# EAGLE library part TX-AUXOUT_1-(4) (library _mtvl.transformers)
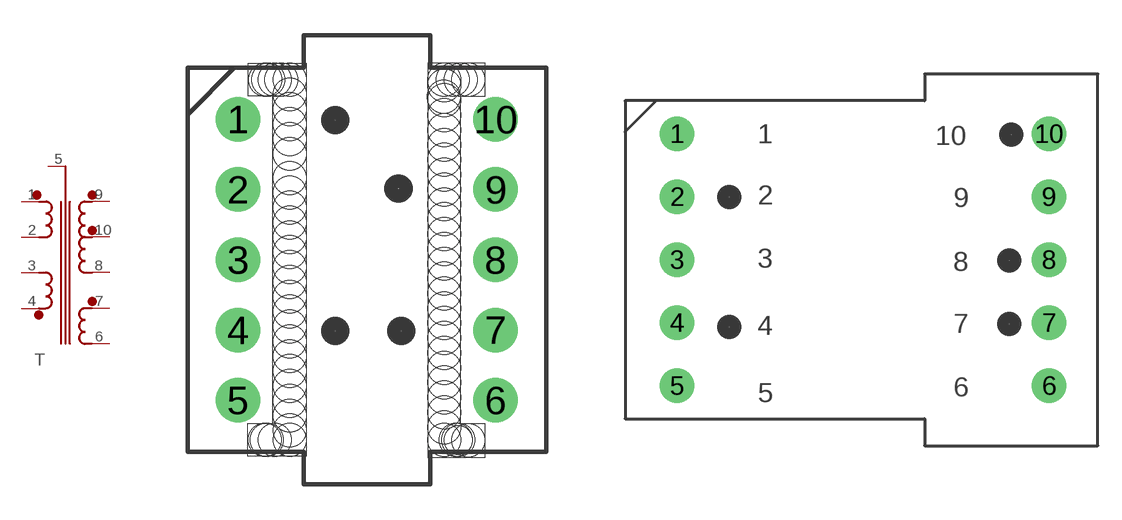
[diagram p3: symbol with the pads of EE19V-(5+5)P-(1); footprints EE19V-(5+5)P-(1), EF20HL-(5+5)P-(2)]

Designator prefix T

## TX-AUXOUT_1-(4)-EE19V-(5+5)P-(1)  [EE19V-(5+5)P-(1)]
1  2  pas
2  3  pas
3  4  pas
4  5  pas
5  1  pas
6  10  pas
7  9  pas
8  6  pas
9  8  pas
10  7  pas

## TX-AUXOUT_1-(4)-EF20HL-(5+5)P-(2)  [EF20HL-(5+5)P-(2)]
1  2  pas
2  4  pas
3  3  pas
4  5  pas
5  1  pas
6  7  pas
7  6  pas
8  8  pas
9  10  pas
10  9  pas

## TX-AUXOUT_1-(4)-EFD25HL-(5+5)P-(4)  [EFD25HL-(5+5)P-(4)]
1  3  pas
2  5  pas
3  4  pas
4  2  pas
5  1  pas
6  9  pas
7  6  pas
8  8  pas
9  7  pas
10  10  pas

## TX-AUXOUT_1-(4)-EFD25HL-(5+5)P-(5)  [EFD25HL-(5+5)P-(5)]
Pads as for EFD25HL-(5+5)P-(4)

## TX-AUXOUT_1-(4)-PQ2620V-(5+5)P-(3)  [PQ2620V-(5+5)P-(3)]
1  2  pas
3  3  pas
4  4  pas
5  5  pas
6  1  pas
7  10  pas
8  9  pas
9  7  pas
10  6  pas
12  8  pas

## Footprint EE19V-(5+5)P-(1) (pad centres in mm)
drill 1.1 pad 1.9: 1 -5.5,6; 2 -5.5,3; 3 -5.5,0; 4 -5.5,-3; 5 -5.5,-6; 6 5.5,-6; 7 5.5,-3; 8 5.5,0; 9 5.5,3; 10 5.5,6
hole 1.4 at -4.2,7.7
hole 1.4 at -3.3,3.5
hole 1.4 at -3.3,7.7
hole 1.4 at 4,7.7
hole 1.4 at 3.3,7.7
hole 1.4 at 3.3,1.1
hole 1.4 at 3.3,-7.7
hole 1.2 at 3.9,-7.7
hole 1.4 at 3.9,-7.7
hole 1.4 at -3.3,2.865
hole 1.4 at -3.3,2.23
hole 1.4 at -3.3,1.595
hole 1.4 at -3.3,0.96
hole 1.4 at -3.3,0.325
hole 1.4 at -3.3,-0.31
hole 1.4 at -3.3,-0.945
hole 1.4 at -3.3,-1.58
hole 1.4 at -3.3,-2.215
hole 1.4 at -3.3,-2.85
hole 1.4 at -3.3,-3.485
hole 1.4 at -3.3,-4.12
hole 1.4 at -3.3,-4.755
hole 1.4 at -3.3,-5.39
hole 1.4 at -3.3,-6.025
hole 1.4 at -3.3,-6.66
hole 1.4 at -3.3,-7.295
hole 1.4 at -3.3,-7.295
hole 1.4 at -4.355,-7.7
hole 1.4 at -3.3,-7.7
hole 1.4 at -3.935,-7.7
hole 1.4 at -3.935,7.7
hole 1.4 at -3.3,7.065
hole 1.4 at -3.3,6.43
hole 1.4 at -3.3,5.795
hole 1.4 at -3.3,5.16
hole 1.4 at -3.3,4.525
hole 1.4 at 3.3,0.465
hole 1.4 at 3.3,-0.17
hole 1.4 at 3.3,-0.805
hole 1.4 at 3.3,-1.44
hole 1.4 at 3.3,-2.71
hole 1.4 at 3.3,-2.075
hole 1.4 at 3.3,-3.345
hole 1.4 at 3.3,-3.98
hole 1.4 at 3.3,-4.615
hole 1.4 at 3.3,-5.25
hole 1.4 at 3.3,-5.25
hole 1.4 at 3.3,-5.885
hole 1.4 at 3.3,-6.52
hole 1.4 at 3.3,-6.52
hole 1.4 at 3.3,-7.155
hole 1.4 at 3.3,1.735
hole 1.4 at 3.3,2.37
hole 1.4 at 3.3,3.005
hole 1.4 at 3.3,3.64
hole 1.4 at 3.3,4.275
hole 1.4 at 3.3,4.91
hole 1.4 at 3.3,5.545
hole 1.4 at 3.3,6.18
hole 1.4 at 3.3,6.815
hole 1.4 at 3.3,7.45
hole 1.4 at 4.332,-7.725
hole 1.4 at 3.798,-7.7
hole 1.4 at -4.265,-7.7
hole 1.4 at -4.327,7.7
hole 1.4 at -3.656,7.7
hole 1.4 at -3.3,7.7
hole 1.4 at 4.33,7.7
hole 1.4 at 3.67,7.7
hole 1.4 at 3.289,6.963

## Footprint EF20HL-(5+5)P-(2) (pad centres in mm)
drill 1 pad 2.2: 1 -11.819,7.873; 2 -11.819,3.873; 3 -11.819,-0.127; 4 -11.819,-4.127; 5 -11.819,-8.127; 6 11.781,-8.127; 7 11.781,-4.127; 8 11.781,-0.127; 9 11.781,3.873; 10 11.781,7.873

## Footprint EFD25HL-(5+5)P-(4) (pad centres in mm)
drill 1.2 pad 2.4: 1 -13.3,10; 2 -13.3,5; 3 -13.3,0; 4 -13.3,-5; 5 -13.3,-10; 6 13.3,-10; 7 13.3,-5; 8 13.3,0; 9 13.3,5; 10 13.3,10

## Footprint EFD25HL-(5+5)P-(5) (pad centres in mm)
drill 1.2 pad 2.4: 1 -13.3,10; 2 -13.3,5; 3 -13.3,0; 4 -13.3,-5; 5 -13.3,-10; 6 13.3,-10; 7 13.3,-5; 8 13.3,0; 9 13.3,5; 10 13.3,10

## Footprint PQ2620V-(5+5)P-(3) (pad centres in mm)
drill 1.4 pad 2.4: 1 -12.7,11.43; 3 -12.7,3.81; 4 -12.7,-3.81; 5 -12.7,-7.62; 6 -12.7,-11.43; 7 12.7,-11.43; 8 12.7,-7.62; 9 12.7,-3.81; 10 12.7,3.81; 12 12.7,11.43